# Altium footprint library 2A_Fuse.PcbLib: 1 footprints
Each footprint in its own frame and in the unit in brackets; x right, y up, seen from the top. Pads: shape width x height; smd on the part's side, far side on the other; paste and mask are expansions set on the pad; w line width, h text height; cw(c..) or ccw(c..) is an arc to the next point about the centre after c.
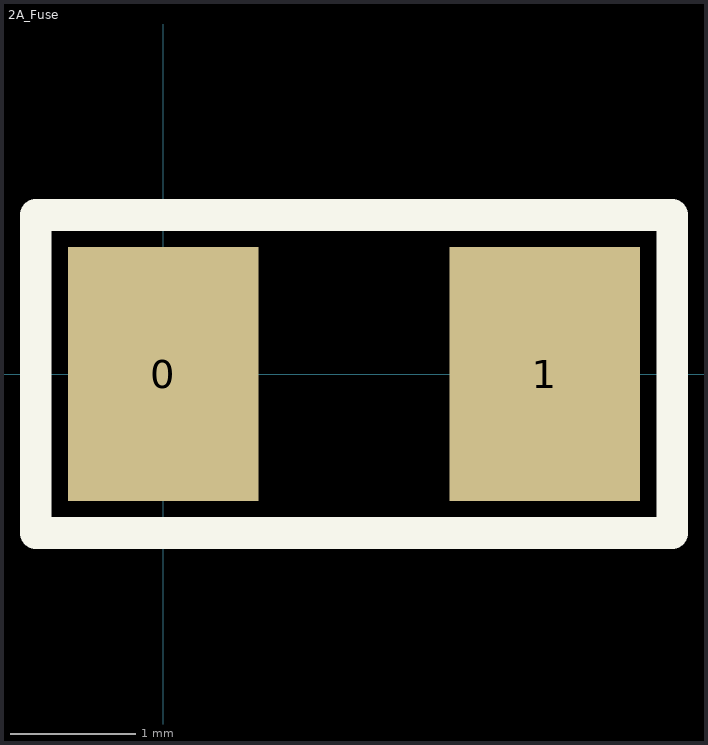
[diagram p0: the footprint, top view; thin cyan lines are the x and y axes]

## 2A_Fuse [mm]
pads (2):
  rect 1.52x2.03 smd mask+0.254: 0(0,0) 1(3.048,0)
Top Overlay:
  lines w0.254: -1.016,-1.27 4.064,-1.27 4.064,1.27 -1.016,1.27 -1.016,-1.27